# Altium footprint library PcbLib.PcbLib: 38 footprints (part 2 of 3)
Each footprint in its own frame and in the unit in brackets; x right, y up, seen from the top. Pads: shape width x height; smd on the part's side, far side on the other; paste and mask are expansions set on the pad; w line width, h text height; cw(c..) or ccw(c..) is an arc to the next point about the centre after c.
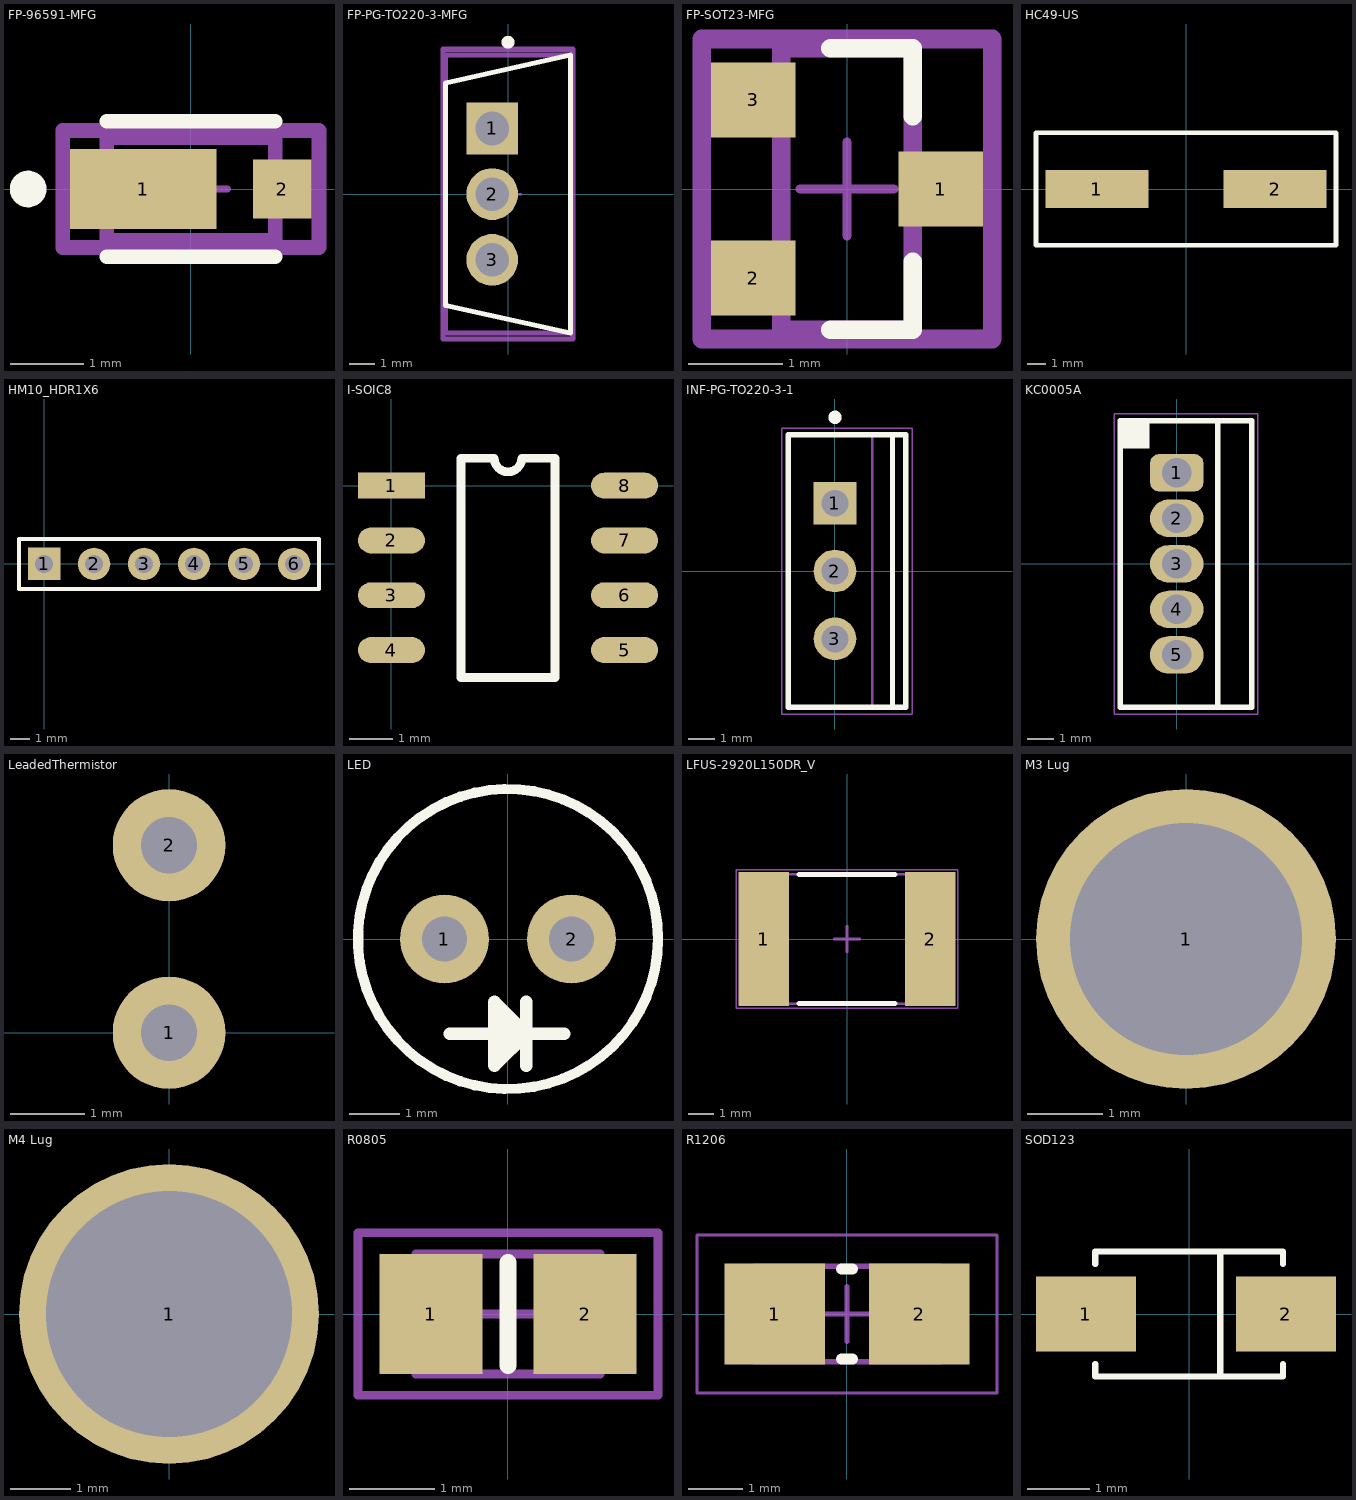
[diagram p1: the footprints below, top view; thin cyan lines are the x and y axes]

## FP-96591-MFG [mm]
pads (2):
  rect 2x1.1 smd paste+0 mask+0: 1(-0.65,0)
  rect 0.8x0.8 smd paste+0 mask+0: 2(1.25,0)
Top Overlay:
  circle w0.25: c-2.225,0 r0.125
  lines w0.2: -1.15,-0.925 1.15,-0.925 ; -1.15,0.925 1.15,0.925
Top 3D Body:
  lines w0.2: -1.15,-0.7 -1.15,0.7 1.15,0.7 1.15,-0.7 -1.15,-0.7
Top Courtyard:
  lines w0.2: -1.75,-0.8 -1.75,0.8 1.75,0.8 1.75,-0.8 -1.75,-0.8
Top Assembly:
  lines w0.2: -1.75,-0.8 -1.75,0.8 1.75,0.8 1.75,-0.8 -1.75,-0.8
Top Component Center:
  lines w0.1: -0.5,0 0.5,0 ; 0,-0.5 0,0.5
3D body "Diode_Vishay_MSS1P6-M3-89A_eec.STEP": height 0.25, standoff 0, extent -1.75,-0.8 1.75,0.8

## FP-PG-TO220-3-MFG [mm]
pads (3):
  rect 2x2 hole 1.3 paste-1000 mask+0: 1(-0.61,2.54)
  round 2 hole 1.3 paste-1000 mask+0: 2(-0.61,0) 3(-0.61,-2.54)
Top Overlay:
  circle w0.25: c0,5.875 r0.125
  lines w0.2: 2.415,-5.375 -2.415,-4.3 -2.415,4.3 2.415,5.375 ; 2.415,-5.325 2.415,5.325
Top 3D Body:
  lines w0.2: -2.415,-5.375 2.415,-5.375 2.415,5.375 -2.415,5.375 -2.415,-5.375
Top Courtyard:
  lines w0.2: -2.515,-5.602 2.515,-5.602 2.515,5.602 -2.515,5.602 -2.515,-5.602
Top Assembly:
  lines w0.2: -2.515,-5.602 2.515,-5.602 2.515,5.602 -2.515,5.602 -2.515,-5.602
Top Component Center:
  lines w0.1: -0.5,0 0.5,0 ; 0,-0.5 0,0.5
3D body "Trans_Infineon_IRF630NPBF_eec.STEP": height 0.25, standoff 0, extent -2.515,-5.602 2.515,5.602

## FP-SOT23-MFG [mm]
pads (3):
  rect 0.9x0.8 smd paste+0 mask+0: 1(1,0) 2(-1,-0.95) 3(-1,0.95)
Top Overlay:
  lines w0.2: -0.175,-1.5 0.7,-1.5 0.7,-0.775 ; -0.175,1.5 0.7,1.5 0.7,0.775
Top 3D Body:
  lines w0.2: -0.7,-1.5 0.7,-1.5 0.7,1.5 -0.7,1.5 -0.7,-1.5
Top Courtyard:
  lines w0.2: -1.55,-1.6 1.55,-1.6 1.55,1.6 -1.55,1.6 -1.55,-1.6
Top Assembly:
  lines w0.2: -1.55,-1.6 1.55,-1.6 1.55,1.6 -1.55,1.6 -1.55,-1.6
Top Component Center:
  lines w0.1: -0.5,0 0.5,0 ; 0,-0.5 0,0.5
3D body "IC_Diodes_Inc_ZR431F01TA_eec.STEP": height 0.25, standoff 0, extent -1.55,-1.6 1.55,1.6

## HC49-US [mm] "20Mhz Crystal"
height 3.8
pads (2):
  rect 5.5x2 smd: 1(-4.75,0) 2(4.75,0)
Top Overlay:
  lines w0.254: -8,-3 -8,3 8,3 8,-3 -8,-3
3D body: height 3.8, standoff 0, extent -2.5,-2.4 2.5,2.4
3D body: height 3.8, standoff 0, extent 0.009,-2.391 4.791,2.4
3D body: height 3.8, standoff 0, extent -4.772,-2.391 0.009,2.4

## HM10_HDR1X6 [mil] "Connector; Header; 6 Position"
pads (6):
  rect 65x65 hole 35.43: 1(0,0)
  round 65 hole 35.43: 2(100,0) 3(200,0) 4(300,0) 5(400,0) 6(500,0)
Top Overlay:
  lines w7.87: -50,-50 -50,50 -40,50 550,50 550,-50 -40,-50 -50,-50
3D body "HM-10 v2.step": height 1842.52, standoff -106.3, extent -141.73,-39.37 570.87,228.35

## I-SOIC8 [mm]
pads (8):
  rect 1.55x0.6 smd: 1(0,0)
  oval 1.55x0.6 smd: 2(0,-1.27) 3(0,-2.54) 4(0,-3.81) 5(5.4,-3.81) 6(5.4,-2.54) 7(5.4,-1.27) 8(5.4,0)
Top Overlay:
  lines w0.2: 1.61,-4.445 1.61,0.635 2.382,0.635 ccw(c2.7,0.635) 3.017,0.635 3.79,0.635 3.79,-4.445 1.61,-4.445

## INF-PG-TO220-3-1 [mm] "FM, 3-Leads, Body 10x4.4mm, Pitch 2.54mm"
height 20.7
pads (3):
  rect 1.6x1.6 hole 1: 1(0,2.54)
  round 1.6 hole 1: 2(0,0) 3(0,-2.54)
Top Overlay:
  circle w0.25: c0,5.75 r0.125
  lines w0.2: 2.15,-5.1 2.15,5.1 ; -1.75,-5.1 2.65,-5.1 2.65,5.1 -1.75,5.1 -1.75,-5.1
Mechanical 13:
  lines w0.1: 1.4,-5.1 1.4,5.1 ; -1.75,-5.1 -1.75,5.1 2.65,5.1 2.65,-5.1 -1.75,-5.1
Mechanical 15:
  lines w0.05: -2,-5.35 -2,5.35 2.9,5.35 2.9,-5.35 -2,-5.35
  lines w0.1: -0.5,0 0.5,0 ; 0,-0.5 0,0.5
3D body: height 4.35, standoff 0, extent -0.25,2.015 0.25,3.065
3D body: height 0, standoff -1.6, extent -0.25,2.165 0.25,2.915
3D body: height 4.35, standoff 0, extent -0.25,-0.525 0.25,0.525
3D body: height 0, standoff -1.6, extent -0.25,-0.375 0.25,0.375
3D body: height 4.35, standoff 0, extent -0.25,-3.065 0.25,-2.015
3D body: height 0, standoff -1.6, extent -0.25,-2.915 0.25,-2.165
3D body: height 14.3, standoff 4.35, extent -1.75,-5.1 2.65,5.1
3D body: height 16.08, standoff 14.3, extent 1.4,-4.95 2.65,4.95
3D body: height 16.12, standoff 16.08, extent 1.4,0.356 2.65,4.95
3D body: height 16.12, standoff 16.08, extent 1.4,-4.95 2.65,-0.356
3D body: height 19.73, standoff 19.69, extent 1.4,0.356 2.65,4.95
3D body: height 19.73, standoff 19.69, extent 1.4,-4.95 2.65,-0.356
3D body: height 16.22, standoff 16.11, extent 1.4,0.698 2.65,4.95
3D body: height 16.22, standoff 16.11, extent 1.4,-4.95 2.65,-0.698
3D body: height 19.69, standoff 19.59, extent 1.4,0.698 2.65,4.95
3D body: height 19.69, standoff 19.59, extent 1.4,-4.95 2.65,-0.698
3D body: height 16.39, standoff 16.21, extent 1.4,1.014 2.65,4.95
3D body: height 16.39, standoff 16.21, extent 1.4,-4.95 2.65,-1.014
3D body: height 19.59, standoff 19.42, extent 1.4,1.014 2.65,4.95
3D body: height 19.59, standoff 19.42, extent 1.4,-4.95 2.65,-1.014
3D body: height 16.61, standoff 16.38, extent 1.4,1.29 2.65,4.95
3D body: height 16.61, standoff 16.38, extent 1.4,-4.95 2.65,-1.29
3D body: height 19.42, standoff 19.19, extent 1.4,1.29 2.65,4.95
3D body: height 19.42, standoff 19.19, extent 1.4,-4.95 2.65,-1.29
3D body: height 16.89, standoff 16.61, extent 1.4,1.517 2.65,4.95
3D body: height 16.89, standoff 16.61, extent 1.4,-4.95 2.65,-1.517
3D body: height 19.2, standoff 18.91, extent 1.4,1.517 2.65,4.95
3D body: height 19.2, standoff 18.91, extent 1.4,-4.95 2.65,-1.517
3D body: height 17.21, standoff 16.89, extent 1.4,1.686 2.65,4.95
3D body: height 17.21, standoff 16.89, extent 1.4,-4.95 2.65,-1.686
3D body: height 18.92, standoff 18.6, extent 1.4,1.686 2.65,4.95
3D body: height 18.92, standoff 18.6, extent 1.4,-4.95 2.65,-1.686
3D body: height 17.55, standoff 17.2, extent 1.4,1.79 2.65,4.95
3D body: height 17.55, standoff 17.2, extent 1.4,-4.95 2.65,-1.79
3D body: height 18.6, standoff 18.26, extent 1.4,1.79 2.65,4.95
3D body: height 18.6, standoff 18.26, extent 1.4,-4.95 2.65,-1.79
3D body: height 17.9, standoff 17.54, extent 1.4,1.825 2.65,4.95
3D body: height 17.9, standoff 17.54, extent 1.4,-4.95 2.65,-1.825
3D body: height 18.26, standoff 17.9, extent 1.4,1.825 2.65,4.95
3D body: height 18.26, standoff 17.9, extent 1.4,-4.95 2.65,-1.825
3D body: height 20.7, standoff 19.73, extent 1.4,-4.95 2.65,4.95

## KC0005A [mm] "FM, 5-Leads, Body 10.16x8.46mm, Pitch 1.7mm"
height 16.51
pads (5):
  rrect50% 2x1.4 hole 1.1: 1(0,3.4)
  oval 2x1.4 hole 1.1: 2(0,1.7) 3(0,0) 4(0,-1.7) 5(0,-3.4)
Top Overlay:
  rectangle: -2.127,4.313 -1.016,5.345
  lines w0.2: 1.533,-5.355 1.533,5.345 ; -2.105,-5.355 -2.105,5.345 2.795,5.345 2.795,-5.355 -2.105,-5.355
Mechanical 13:
  lines w0.1: 1.52,-5.355 1.52,5.345 ; -2.08,-5.355 2.77,-5.355 2.77,5.345 -2.08,5.345 -2.08,-5.355
Mechanical 15:
  lines w0.05: -2.33,-5.605 3.02,-5.605 3.02,5.595 -2.33,5.595 -2.33,-5.605
  lines w0.1: -0.5,-0.005 0.5,-0.005 ; 0,-0.505 0,0.495
3D body: height 16.51, standoff 15.64, extent 1.52,-5.08 2.77,5.07
3D body: height 14.09, standoff 13.71, extent 1.52,-5.08 2.77,-1.93
3D body: height 14.09, standoff 13.71, extent 1.52,1.92 2.77,5.07
3D body: height 13.71, standoff 13.33, extent 1.52,-5.08 2.77,-1.93
3D body: height 13.71, standoff 13.33, extent 1.52,1.92 2.77,5.07
3D body: height 14.45, standoff 14.09, extent 1.52,-5.08 2.77,-1.893
3D body: height 14.45, standoff 14.09, extent 1.52,1.883 2.77,5.07
3D body: height 13.34, standoff 12.97, extent 1.52,-5.08 2.77,-1.893
3D body: height 13.34, standoff 12.97, extent 1.52,1.883 2.77,5.07
3D body: height 14.78, standoff 14.45, extent 1.52,-5.08 2.77,-1.783
3D body: height 14.78, standoff 14.45, extent 1.52,1.773 2.77,5.07
3D body: height 12.98, standoff 12.64, extent 1.52,-5.08 2.77,-1.783
3D body: height 12.98, standoff 12.64, extent 1.52,1.773 2.77,5.07
3D body: height 15.08, standoff 14.78, extent 1.52,-5.08 2.77,-1.606
3D body: height 15.08, standoff 14.78, extent 1.52,1.596 2.77,5.07
3D body: height 12.65, standoff 12.35, extent 1.52,-5.08 2.77,-1.606
3D body: height 12.65, standoff 12.35, extent 1.52,1.596 2.77,5.07
3D body: height 15.32, standoff 15.07, extent 1.52,-5.08 2.77,-1.366
3D body: height 15.32, standoff 15.07, extent 1.52,1.356 2.77,5.07
3D body: height 12.35, standoff 12.11, extent 1.52,-5.08 2.77,-1.366
3D body: height 12.35, standoff 12.11, extent 1.52,1.356 2.77,5.07
3D body: height 15.49, standoff 15.31, extent 1.52,-5.08 2.77,-1.074
3D body: height 15.49, standoff 15.31, extent 1.52,1.064 2.77,5.07
3D body: height 12.11, standoff 11.93, extent 1.52,-5.08 2.77,-1.074
3D body: height 12.11, standoff 11.93, extent 1.52,1.064 2.77,5.07
3D body: height 15.6, standoff 15.49, extent 1.52,-5.08 2.77,-0.742
3D body: height 15.6, standoff 15.49, extent 1.52,0.732 2.77,5.07
3D body: height 11.94, standoff 11.82, extent 1.52,-5.08 2.77,-0.742
3D body: height 11.94, standoff 11.82, extent 1.52,0.732 2.77,5.07
3D body: height 15.64, standoff 15.6, extent 1.52,-5.08 2.77,-0.381
3D body: height 15.64, standoff 15.6, extent 1.52,0.371 2.77,5.07
3D body: height 11.83, standoff 11.79, extent 1.52,-5.08 2.77,-0.381
3D body: height 11.83, standoff 11.79, extent 1.52,0.371 2.77,5.07
3D body: height 11.79, standoff 10.21, extent 1.52,-5.08 2.77,5.07
3D body: height 10.21, standoff 0, extent -2.08,-5.355 2.77,5.345
3D body: height 0, standoff -1.6, extent -0.23,-3.815 0.23,-2.985
3D body: height 0, standoff -1.6, extent -0.23,-2.115 0.23,-1.285
3D body: height 0, standoff -1.6, extent -0.23,-0.415 0.23,0.415
3D body: height 0, standoff -1.6, extent -0.23,1.285 0.23,2.115
3D body: height 0, standoff -1.6, extent -0.23,2.985 0.23,3.815

## LeadedThermistor [mil]
pads (2):
  round 60 hole 30: 1(0,0) 2(0,100)

## LED [mil]
pads (2):
  round 70 hole 35.43: 1(-50,0) 2(50,0)
Top Overlay:
  circle w8: c0,0 r118.11
  lines w10: -45.63,-74.69 44.37,-74.69 ; -0.94,-89.99 -0.94,-59.99 -0.63,-59.69 ; 14.37,-99.69 14.37,-49.69 ; -10.63,-99.69 14.37,-74.69 -10.63,-49.69 -10.63,-99.69
3D body: height 275.59, standoff -78.74, extent -55.9,-5.9 -44.09,5.91
3D body: height 275.59, standoff -78.74, extent 44.1,-5.9 55.91,5.91
3D body: height 314.96, standoff 157.48, extent -98.42,-98.29 98.43,98.3
3D body: height 413.39, standoff 216.54, extent -97.97,-98.31 98.43,98.32

## LFUS-2920L150DR_V [mm] "SMD, 2-Leads, Body 5.12x7.355mm"
height 1.25
pads (2):
  rect 2x5.3 smd: 1(-3.3,0) 2(3.3,0)
Top Overlay:
  lines w0.2: -1.9,-2.56 1.9,-2.56 ; -1.9,2.56 1.9,2.56
Mechanical 13:
  lines w0.1: -3.678,-2.56 -3.678,2.56 3.678,2.56 3.678,-2.56 -3.678,-2.56
Mechanical 15:
  lines w0.05: -4.4,-2.75 -4.4,2.75 4.4,2.75 4.4,-2.75 -4.4,-2.75
  lines w0.1: -0.5,0 0.5,0 ; 0,-0.5 0,0.5
3D body: height 1.25, standoff 0, extent -3.677,-2.559 3.677,2.559

## M3 Lug [mm]
pads (1):
  round 4 hole 3.1: 1(0,0)

## M4 Lug [mm]
pads (1):
  round 5 hole 4.1: 1(0,0)

## R0805 [mm]
pads (2):
  rect 1.2x1.4 smd: 1(-0.9,0) 2(0.9,0)
Top Overlay:
  lines w0.2: 0,-0.6 0,0.6
Mechanical 13:
  lines w0.1: -1.075,-0.7 -1.075,0.7 1.075,0.7 1.075,-0.7 -1.075,-0.7
Mechanical 15:
  lines w0.1: -0.5,0 0.5,0 ; 0,-0.5 0,0.5 ; -1.75,-0.95 -1.75,0.95 1.75,0.95 1.75,-0.95 -1.75,-0.95
3D body "0805.STEP": height 0.6, standoff 0, extent -1.039,-0.626 0.993,0.644

## R1206 [mm] "Chip Resistor, 2-Leads, Body 3.20x1.60mm, IPC Low Density"
height 0.65
pads (2):
  rect 1.85x1.85 smd: 1(-1.325,0) 2(1.325,0)
Top Overlay:
  lines w0.2: -0.1,-0.825 0.1,-0.825 ; -0.1,0.825 0.1,0.825
Mechanical 13:
  lines w0.1: -1.7,-0.875 -1.7,0.875 1.7,0.875 1.7,-0.875 -1.7,-0.875
Mechanical 15:
  lines w0.05: -2.75,-1.45 -2.75,1.45 2.75,1.45 2.75,-1.45 -2.75,-1.45
  lines w0.1: -0.5,0 0.5,0 ; 0,-0.5 0,0.5
3D body: height 0.65, standoff 0, extent -0.8,-0.875 0.8,0.875
3D body: height 0.65, standoff 0, extent -1.7,-0.875 -0.8,0.875
3D body: height 0.65, standoff 0, extent 0.8,-0.875 1.7,0.875

## SOD123 [mm] "SOD-123; 2 Leads; Body 2.7 x 1.6 mm, (LxW)"
height 1.35
pads (2):
  rect 1.6x1.2 smd: 1(-1.65,0) 2(1.55,0)
Top Overlay:
  lines w0.1: -1.5,-0.8 -1.5,-1 1.5,-1 1.5,-0.8 ; -1.5,0.8 -1.5,1 1.5,1 1.5,0.8 ; 0.5,-1 0.5,1
3D body: height 0.25, standoff 0, extent -1.8,-0.35 1.8,0.35
3D body: height 1.2, standoff 0, extent -1.35,-0.85 1.35,0.85
3D body: height 1.21, standoff 0, extent 0.8,-0.86 0.9,0.86